# Altium footprint library NXP_RFID.PcbLib: 23 footprints (part 1 of 2)
Each footprint in its own frame and in the unit in brackets; x right, y up, seen from the top. Pads: shape width x height; smd on the part's side, far side on the other; paste and mask are expansions set on the pad; w line width, h text height; cw(c..) or ccw(c..) is an arc to the next point about the centre after c.
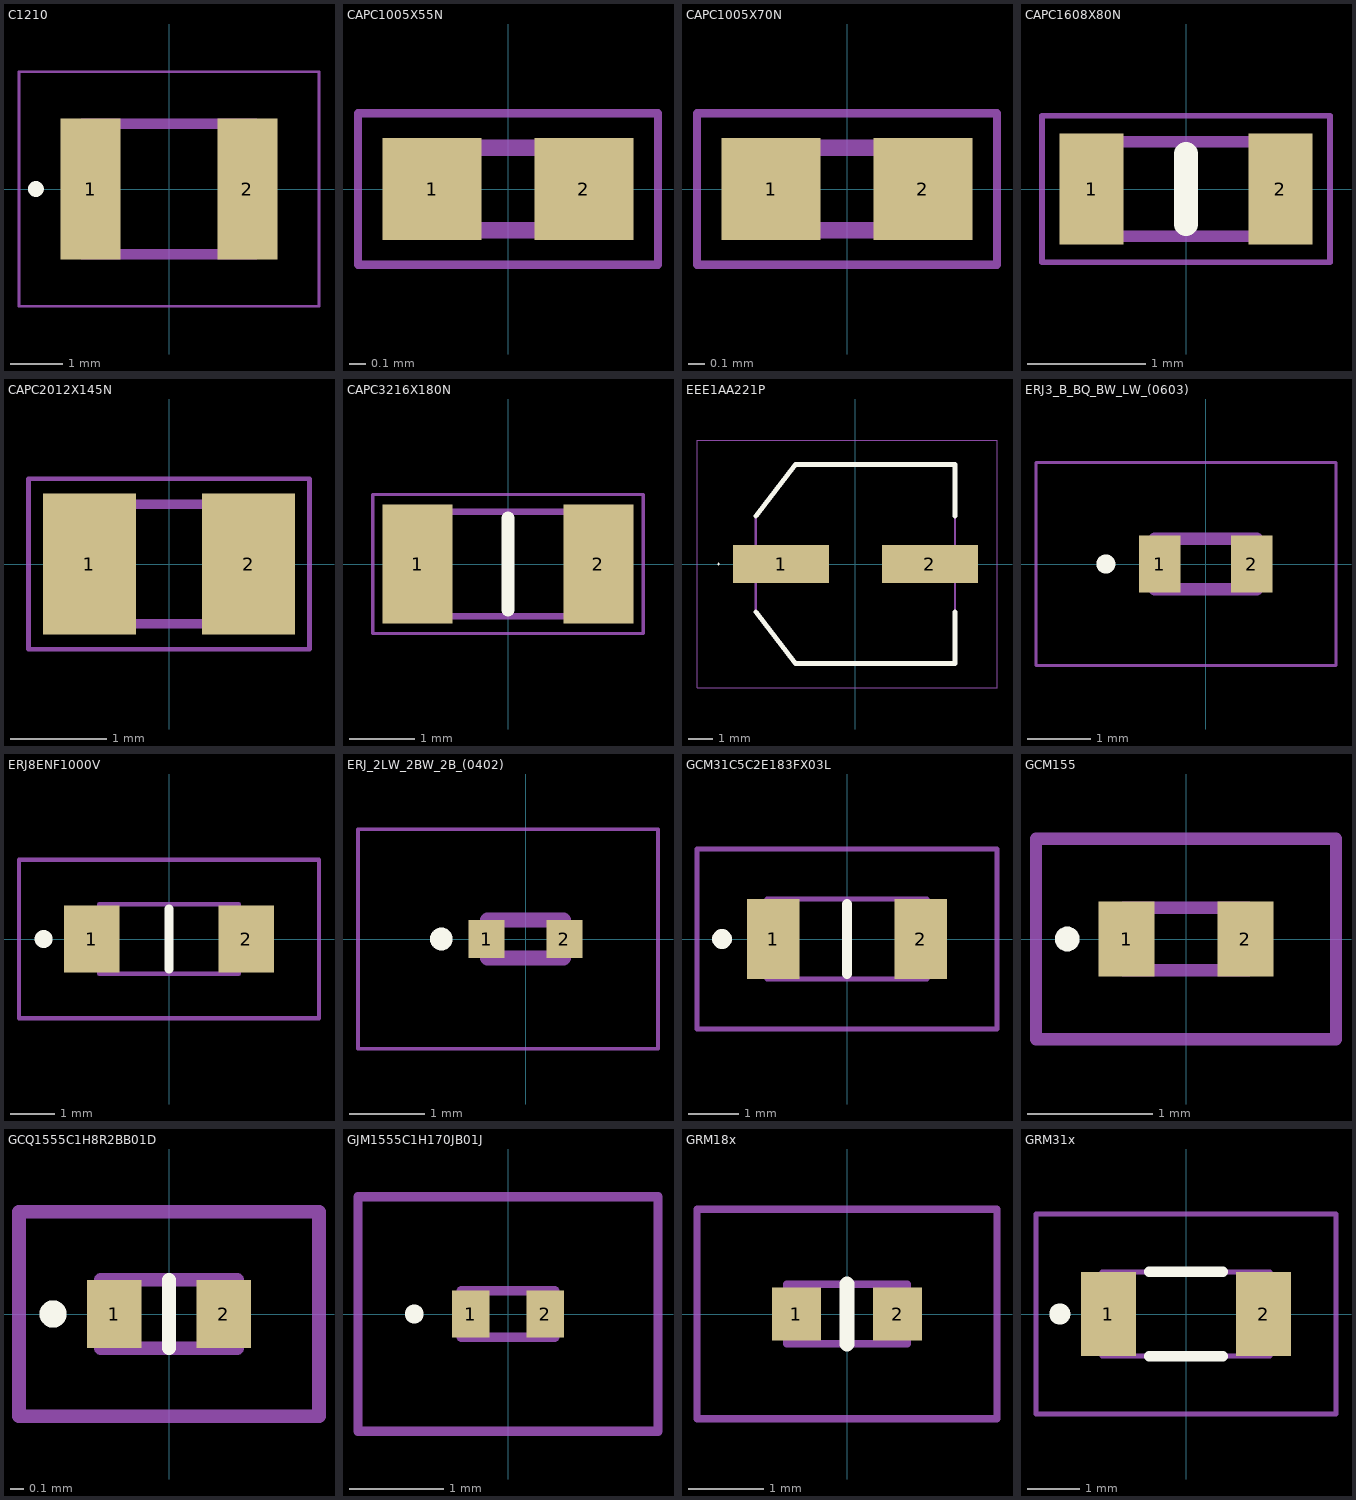
[diagram p0: the footprints below, top view; thin cyan lines are the x and y axes]

## C1210 [mm]
pads (2):
  rect 1.15x2.7 smd: 1(-1.5,0) 2(1.5,0)
Top Overlay:
  circle w0.2: c-2.55,0 r0.05
Mechanical 13:
  lines w0.2: -1.65,-1.25 -1.65,1.25 1.65,1.25 1.65,-1.25 -1.65,-1.25
Mechanical 15:
  lines w0.05: -2.875,-2.25 -2.875,2.25 2.875,2.25 2.875,-2.25 -2.875,-2.25
3D body "C1210C475J5RACAUTO.stp": height 1.4, standoff 0, extent -1.7,-1.35 1.7,1.35

## CAPC1005X55N [mm]
pads (2):
  rect 0.6x0.62 smd: 1(-0.46,0) 2(0.46,0)
Mechanical 13:
  lines w0.1: -0.5,-0.25 -0.5,0.25 0.5,0.25 0.5,-0.25 -0.5,-0.25
Mechanical 15:
  lines w0.05: -0.91,-0.46 -0.91,0.46 0.91,0.46 0.91,-0.46 -0.91,-0.46
3D body "GJM1555C1H330FB01D.stp": height 0.55, standoff 0, extent -0.5,-0.25 0.5,0.25

## CAPC1005X70N [mm]
pads (2):
  rect 0.6x0.62 smd: 1(-0.46,0) 2(0.46,0)
Mechanical 13:
  lines w0.1: -0.5,-0.25 -0.5,0.25 0.5,0.25 0.5,-0.25 -0.5,-0.25
Mechanical 15:
  lines w0.05: -0.91,-0.46 -0.91,0.46 0.91,0.46 0.91,-0.46 -0.91,-0.46
3D body "GRM1555C1H180FA01D.stp": height 0.25, standoff -0.25, extent -0.5,-0.25 0.5,0.25

## CAPC1608X80N [mm]
pads (2):
  rect 0.54x0.94 smd: 1(-0.8,0) 2(0.8,0)
Top Overlay:
  lines w0.2: 0,-0.3 0,0.3
Mechanical 13:
  lines w0.1: -0.8,-0.4 -0.8,0.4 0.8,0.4 0.8,-0.4 -0.8,-0.4
Mechanical 15:
  lines w0.05: -1.22,-0.62 -1.22,0.62 1.22,0.62 1.22,-0.62 -1.22,-0.62
3D body "C1608X5R1E685K080AC.stp": height 0.8, standoff 0, extent -0.8,-0.4 0.8,0.4

## CAPC2012X145N [mm]
pads (2):
  rect 0.97x1.47 smd: 1(-0.83,0) 2(0.83,0)
Mechanical 13:
  lines w0.1: -1,-0.625 -1,0.625 1,0.625 1,-0.625 -1,-0.625
Mechanical 15:
  lines w0.05: -1.465,-0.89 -1.465,0.89 1.465,0.89 1.465,-0.89 -1.465,-0.89
3D body "GRM21BR61E106KA73L.stp": height 1.45, standoff 0, extent -1,-0.625 1,0.625

## CAPC3216X180N [mm]
pads (2):
  rect 1.07x1.82 smd: 1(-1.38,0) 2(1.38,0)
Top Overlay:
  lines w0.2: 0,-0.7 0,0.7
Mechanical 13:
  lines w0.1: -1.6,-0.8 -1.6,0.8 1.6,0.8 1.6,-0.8 -1.6,-0.8
Mechanical 15:
  lines w0.05: -2.065,-1.06 -2.065,1.06 2.065,1.06 2.065,-1.06 -2.065,-1.06
3D body "GRM31C5C1H104JA01K.stp": height 1.8, standoff 0, extent -1.6,-0.8 1.6,0.8

## EEE1AA221P [mm]
pads (2):
  rect 4x1.6 smd: 1(-3.1,0) 2(3.1,0)
Top Overlay:
  lines w0.05: -5.725,0 cw(c-5.7,0) -5.675,0 cw(c-5.7,0) -5.725,0
  lines w0.2: -4.15,-2 -2.5,-4.15 4.15,-4.15 4.15,-2 ; -4.15,2 -2.5,4.15 4.15,4.15 4.15,2
Mechanical 13:
  lines w0.1: -4.15,2 -2.5,4.15 ; -4.15,2 -4.15,-2 -2.5,-4.15 4.15,-4.15 4.15,-4 4.15,4.15 -2.5,4.15 ; -4.15,2 -2.5,4.15
Mechanical 15:
  lines w0.05: -6.6,-5.15 -6.6,5.15 5.9,5.15 5.9,-5.15 -6.6,-5.15
3D body "EEE-1CA101P.stp": height 6.2, standoff 0, extent -4.5,-4.15 4.5,4.15

## ERJ3_B_BQ_BW_LW_(0603) [mm]
pads (2):
  rect 0.65x0.9 smd: 1(-0.725,0) 2(0.725,0)
Top Overlay:
  circle w0.2: c-1.575,0 r0.05
Mechanical 13:
  lines w0.2: -0.8,-0.4 -0.8,0.4 0.8,0.4 0.8,-0.4 -0.8,-0.4
Mechanical 15:
  lines w0.05: -2.675,-1.6 -2.675,1.6 2.05,1.6 2.05,-1.6 -2.675,-1.6
3D body "ERJ-3BQF2R2V.stp": height 0.55, standoff 0, extent -0.8,-0.4 0.8,0.4

## ERJ8ENF1000V [mm]
pads (2):
  rect 1.25x1.5 smd: 1(-1.725,0) 2(1.725,0)
Top Overlay:
  lines w0.2: 0,-0.675 0,0.675 ; -2.8,-0.1 ccw(c-2.8,0) -2.8,0.1 ccw(c-2.8,0) -2.8,-0.1
Mechanical 13:
  lines w0.1: -1.562,-0.775 -1.562,0.775 1.562,0.775 1.562,-0.775 -1.562,-0.775
Mechanical 15:
  lines w0.1: -3.35,-1.775 -3.35,1.775 3.35,1.775 3.35,-1.775 -3.35,-1.775
3D body "ERJ-8ENF4701V.stp": height 0.6, standoff 0, extent -1.6,-0.8 1.6,0.8

## ERJ_2LW_2BW_2B_(0402) [mm]
pads (2):
  rect 0.475x0.5 smd: 1(-0.513,0) 2(0.513,0)
Top Overlay:
  circle w0.2: c-1.112,0 r0.05
Mechanical 13:
  lines w0.2: -0.5,-0.25 -0.5,0.25 0.5,0.25 0.5,-0.25 -0.5,-0.25
Mechanical 15:
  lines w0.05: -2.213,-1.45 -2.213,1.45 1.75,1.45 1.75,-1.45 -2.213,-1.45
3D body "ERJ-2BWFR100X.stp": height 0.4, standoff 0, extent -0.5,-0.25 0.5,0.25

## GCM31C5C2E183FX03L [mm]
pads (2):
  rect 1.05x1.6 smd: 1(-1.475,0) 2(1.475,0)
Top Overlay:
  lines w0.2: 0,-0.7 0,0.7 ; -2.5,-0.1 ccw(c-2.5,0) -2.5,0.1 ccw(c-2.5,0) -2.5,-0.1
Mechanical 13:
  lines w0.1: -1.6,-0.8 -1.6,0.8 1.6,0.8 1.6,-0.8 -1.6,-0.8
Mechanical 15:
  lines w0.1: -3,-1.8 -3,1.8 3,1.8 3,-1.8 -3,-1.8
3D body "GCM31C5C1H104FA16L.stp": height 1.6, standoff 0, extent -1.6,-0.8 1.6,0.8

## GCM155 [mm]
pads (2):
  rect 0.45x0.6 smd: 1(-0.475,0) 2(0.475,0)
Top Overlay:
  lines w0.1: -0.95,-0.05 ccw(c-0.95,0) -0.95,0.05 ccw(c-0.95,0) -0.95,-0.05
Mechanical 13:
  lines w0.1: -0.5,-0.25 -0.5,0.25 0.5,0.25 0.5,-0.25 -0.5,-0.25
Mechanical 15:
  lines w0.1: -1.2,-0.8 -1.2,0.8 1.2,0.8 1.2,-0.8 -1.2,-0.8
3D body "GCM1555C1H121FA16D.stp": height 0.5, standoff 0, extent -0.5,-0.28 0.5,0.27

## GCQ1555C1H8R2BB01D [mm]
pads (2):
  rect 0.4x0.5 smd: 1(-0.4,0) 2(0.4,0)
Top Overlay:
  lines w0.1: 0,-0.25 0,0.25 ; -0.85,-0.05 ccw(c-0.85,0) -0.85,0.05 ccw(c-0.85,0) -0.85,-0.05
Mechanical 13:
  lines w0.1: -0.5,-0.25 -0.5,0.25 0.5,0.25 0.5,-0.25 -0.5,-0.25
Mechanical 15:
  lines w0.1: -1.1,-0.75 -1.1,0.75 1.1,0.75 1.1,-0.75 -1.1,-0.75
3D body "GCQ1555C1H220FB01D.stp": height 0.65, standoff 0, extent -0.56,-0.25 0.56,0.25

## GJM1555C1H170JB01J [mm]
pads (2):
  rect 0.4x0.5 smd: 1(-0.4,0) 2(0.4,0)
Top Overlay:
  lines w0.1: -1,-0.05 ccw(c-1,0) -1,0.05 ccw(c-1,0) -1,-0.05
Mechanical 13:
  lines w0.1: -0.5,-0.25 -0.5,0.25 0.5,0.25 0.5,-0.25 -0.5,-0.25
Mechanical 15:
  lines w0.1: -1.6,-1.25 -1.6,1.25 1.6,1.25 1.6,-1.25 -1.6,-1.25
3D body "GJM1555C1H150FB01D.stp": height 0.55, standoff 0, extent -0.5,-0.25 0.5,0.25

## GRM18x [mm]
pads (2):
  rect 0.65x0.7 smd: 1(-0.675,0) 2(0.675,0)
Top Overlay:
  lines w0.2: 0,-0.4 0,0.4
Mechanical 13:
  lines w0.1: -0.8,-0.4 -0.8,0.4 0.8,0.4 0.8,-0.4 -0.8,-0.4
Mechanical 15:
  lines w0.1: -2,-1.4 -2,1.4 2,1.4 2,-1.4 -2,-1.4
3D body "GRM188R71E474KA12D.stp": height 0.8, standoff 0, extent -0.8,-0.45 0.8,0.45

## GRM31x [mm]
pads (2):
  rect 1.05x1.6 smd: 1(-1.475,0) 2(1.475,0)
Top Overlay:
  lines w0.2: -0.7,-0.8 0.7,-0.8 ; -0.7,0.8 0.7,0.8 ; -2.4,-0.1 ccw(c-2.4,0) -2.4,0.1 ccw(c-2.4,0) -2.4,-0.1
Mechanical 13:
  lines w0.1: -1.6,-0.8 -1.6,0.8 1.6,0.8 1.6,-0.8 -1.6,-0.8
Mechanical 15:
  lines w0.1: -2.854,-1.902 -2.854,1.902 2.854,1.902 2.854,-1.902 -2.854,-1.902
3D body "GRM31CR60J107KEA8L.stp": height 1, standoff 0, extent -1.6,-0.8 1.6,0.8